# Altium footprint library ATK-2014-09-12.PcbLib: 436 footprints (part 18 of 28)
Each footprint in its own frame and in the unit in brackets; x right, y up, seen from the top. Pads: shape width x height; smd on the part's side, far side on the other; paste and mask are expansions set on the pad; w line width, h text height; cw(c..) or ccw(c..) is an arc to the next point about the centre after c.
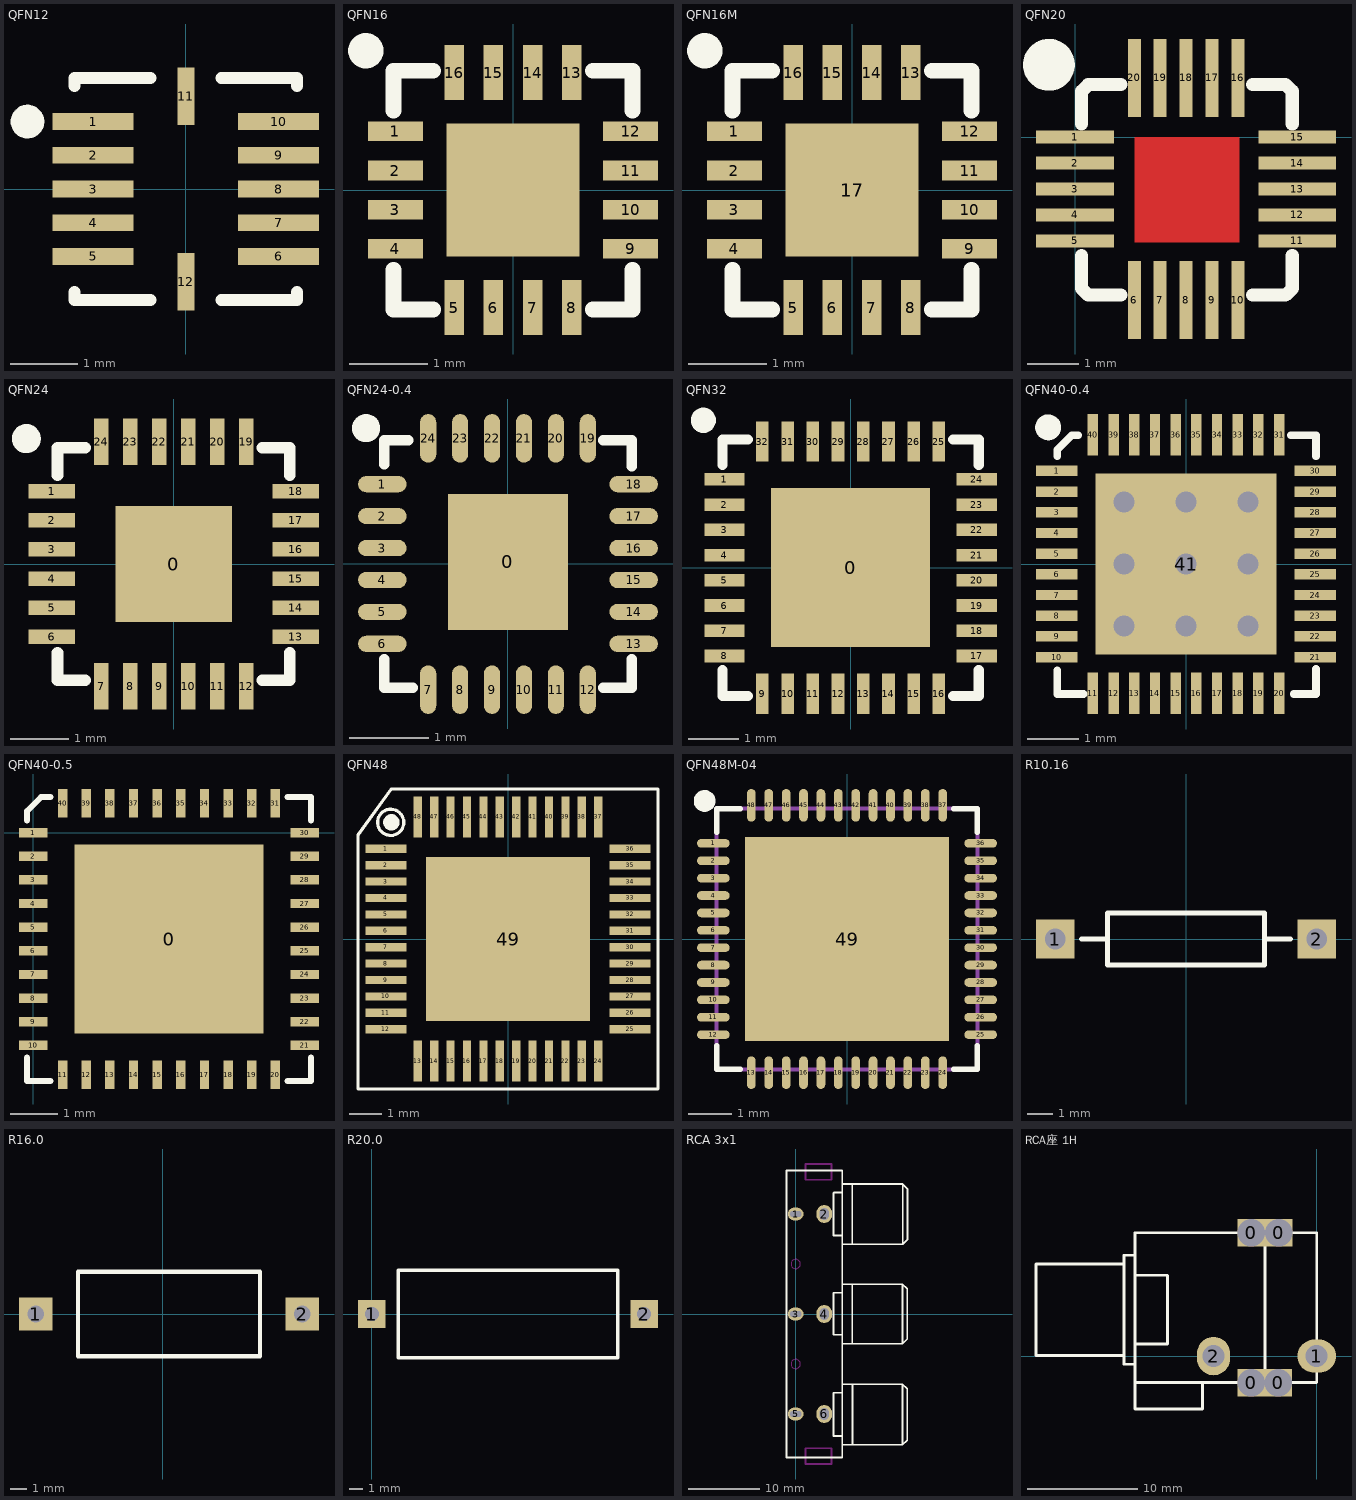
[diagram p17: the footprints below, top view; thin cyan lines are the x and y axes]

## QFN12 [mm] "QFN, 12-Leads, Body 3.2x3.2mm (max), Pitch 0.50mm, IPC High Density"
height 0.9
pads (12):
  rect 1.2x0.25 smd: 1(-1.375,1) 2(-1.375,0.5) 3(-1.375,0) 4(-1.375,-0.5) 5(-1.375,-1) 6(1.375,-1) 7(1.375,-0.5) 8(1.375,0) 9(1.375,0.5) 10(1.375,1)
  rect 0.25x0.85 smd: 11(0,1.375) 12(0,-1.375)
Top Overlay:
  circle w0.25: c-2.35,1 r0.125
  lines w0.178: -1.65,-1.525 -1.65,-1.65 -0.525,-1.65 ; -1.65,1.525 -1.65,1.65 -0.525,1.65 ; 0.525,-1.65 1.65,-1.65 1.65,-1.525 ; 0.525,1.65 1.65,1.65 1.65,1.525

## QFN16 [mm] "QFN, 16-Leads, Body 3.1x3.1mm (max), Pitch 0.50mm, IPC Medium Density"
height 0.8
pads (21):
  rect 0.7x0.25 smd: 1(-1.5,0.75) 2(-1.5,0.25) 3(-1.5,-0.25) 4(-1.5,-0.75) 9(1.5,-0.75) 10(1.5,-0.25) 11(1.5,0.25) 12(1.5,0.75)
  rect 0.25x0.7 smd: 5(-0.75,-1.5) 6(-0.25,-1.5) 7(0.25,-1.5) 8(0.75,-1.5) 13(0.75,1.5) 14(0.25,1.5) 15(-0.25,1.5) 16(-0.75,1.5)
  rect 0x0 smd: 17(-1.25,0) 19(0,1.25) 21(1.25,0) 23(0,-1.25)
  rect 1.7x1.7 smd: ""(0,0)
Top Overlay:
  circle w0.25: c-1.878,1.778 r0.1
  lines w0.2: -1.524,-1.016 -1.524,-1.524 -1.016,-1.524 ; -1.524,1.016 -1.524,1.524 -1.016,1.524 ; 1.016,-1.524 1.524,-1.524 1.524,-1.016 ; 1.016,1.524 1.524,1.524 1.524,1.016

## QFN16M [mm]
pads (17):
  rect 0.7x0.25 smd: 1(-1.5,0.75) 2(-1.5,0.25) 3(-1.5,-0.25) 4(-1.5,-0.75) 9(1.5,-0.75) 10(1.5,-0.25) 11(1.5,0.25) 12(1.5,0.75)
  rect 0.25x0.7 smd: 5(-0.75,-1.5) 6(-0.25,-1.5) 7(0.25,-1.5) 8(0.75,-1.5) 13(0.75,1.5) 14(0.25,1.5) 15(-0.25,1.5) 16(-0.75,1.5)
  rect 1.7x1.7 smd: 17(0,0)
Top Overlay:
  circle w0.25: c-1.878,1.778 r0.1
  lines w0.2: -1.524,-1.016 -1.524,-1.524 -1.016,-1.524 ; -1.524,1.016 -1.524,1.524 -1.016,1.524 ; 1.016,-1.524 1.524,-1.524 1.524,-1.016 ; 1.016,1.524 1.524,1.524 1.524,1.016

## QFN20 [mm]
height 1
pads (20):
  rect 1.5x0.25 smd: 1(0,0) 2(0,-0.5) 3(0,-1) 4(0,-1.5) 5(0,-2) 11(4.286,-2) 12(4.286,-1.5) 13(4.286,-1) 14(4.286,-0.5) 15(4.286,0)
  rect 0.25x1.5 smd: 6(1.143,-3.143) 7(1.643,-3.143) 8(2.143,-3.143) 9(2.643,-3.143) 10(3.143,-3.143) 16(3.143,1.143) 17(2.643,1.143) 18(2.143,1.143) 19(1.643,1.143) 20(1.143,1.143)
Top Layer:
  rectangle: 1.143,-2.032 3.175,0
Top Overlay:
  circle w0.5: c-0.504,1.397 r0.25
  lines w0.254: 0.127,-2.286 0.127,-2.921 0.254,-3.048 0.889,-3.048 0.381,-3.048 ; 0.127,0.254 0.127,0.889 0.254,1.016 0.889,1.016 0.381,1.016 ; 3.429,-3.048 4.064,-3.048 4.191,-2.921 4.191,-2.286 ; 3.937,1.016 3.429,1.016 4.064,1.016 4.191,0.889 4.191,0.254

## QFN24 [mm] "QFN, 24-Leads, Body 4.0x4.0mm (max), Pitch 0.50mm, IPC Medium Density"
height 0.9
pads (25):
  rect 2x2 smd: 0(0,0)
  rect 0.8x0.25 smd: 1(-2.101,1.25) 2(-2.101,0.75) 3(-2.101,0.25) 4(-2.101,-0.25) 5(-2.101,-0.75) 6(-2.101,-1.25) 13(2.101,-1.25) 14(2.101,-0.75) 15(2.101,-0.25) 16(2.101,0.25) 17(2.101,0.75) 18(2.101,1.25)
  rect 0.25x0.8 smd: 7(-1.25,-2.101) 8(-0.75,-2.101) 9(-0.25,-2.101) 10(0.25,-2.101) 11(0.75,-2.101) 12(1.25,-2.101) 19(1.25,2.101) 20(0.75,2.101) 21(0.25,2.101) 22(-0.25,2.101) 23(-0.75,2.101) 24(-1.25,2.101)
Top Overlay:
  circle w0.25: c-2.538,2.159 r0.125
  lines w0.2: -2,-1.525 -2,-2 -1.525,-2 ; -2,1.525 -2,2 -1.525,2 ; 1.525,-2 2,-2 2,-1.525 ; 1.525,2 2,2 2,1.525

## QFN24-0.4 [mm] "QFN, 24-Leads, Body 3.0x3.0mm (max), Pitch 0.40mm, IPC Medium Density"
height 1
pads (25):
  rect 1.5x1.7 smd: 0(0,0.025)
  oval 0.61x0.203 smd: 1(-1.575,1) 2(-1.575,0.6) 3(-1.575,0.2) 4(-1.575,-0.2) 5(-1.575,-0.6) 6(-1.575,-1) 13(1.575,-1) 14(1.575,-0.6) 15(1.575,-0.2) 16(1.575,0.2) 17(1.575,0.6) 18(1.575,1)
  oval 0.203x0.61 smd: 7(-1,-1.575) 8(-0.6,-1.575) 9(-0.2,-1.575) 10(0.2,-1.575) 11(0.6,-1.575) 12(1,-1.575) 19(1,1.575) 20(0.6,1.575) 21(0.2,1.575) 22(-0.2,1.575) 23(-0.6,1.575) 24(-1,1.575)
Top Overlay:
  circle w0.25: c-1.778,1.702 r0.051
  lines w0.127: -1.55,-1.194 -1.55,-1.55 -1.194,-1.55 ; -1.55,1.245 -1.55,1.55 -1.245,1.55 ; 1.194,-1.55 1.55,-1.55 1.55,-1.194 ; 1.194,1.55 1.55,1.55 1.55,1.22
3D body: height 1, standoff 0, extent -1.525,-1.525 1.525,1.525

## QFN32 [mm] "QFN, 32-Leads, Body 5.2x5.2mm (max), Pitch 0.50mm, IPC Medium Density"
height 1
pads (33):
  rect 3.15x3.15 smd: 0(0,0)
  rect 0.8x0.25 smd: 1(-2.5,1.75) 2(-2.5,1.25) 3(-2.5,0.75) 4(-2.5,0.25) 5(-2.5,-0.25) 6(-2.5,-0.75) 7(-2.5,-1.25) 8(-2.5,-1.75) 17(2.5,-1.75) 18(2.5,-1.25) 19(2.5,-0.75) 20(2.5,-0.25) 21(2.5,0.25) 22(2.5,0.75) 23(2.5,1.25) 24(2.5,1.75)
  rect 0.25x0.8 smd: 9(-1.75,-2.5) 10(-1.25,-2.5) 11(-0.75,-2.5) 12(-0.25,-2.5) 13(0.25,-2.5) 14(0.75,-2.5) 15(1.25,-2.5) 16(1.75,-2.5) 25(1.75,2.5) 26(1.25,2.5) 27(0.75,2.5) 28(0.25,2.5) 29(-0.25,2.5) 30(-0.75,2.5) 31(-1.25,2.5) 32(-1.75,2.5)
Top Overlay:
  circle w0.25: c-2.919,2.921 r0.125
  lines w0.2: -2.54,-2.032 -2.54,-2.54 -2.032,-2.54 ; -2.54,2.032 -2.54,2.54 -2.032,2.54 ; 2.032,-2.54 2.54,-2.54 2.54,-2.032 ; 2.032,2.54 2.54,2.54 2.54,2.032

## QFN40-0.4 [mm] "QFN, 40-Leads, Body 5.0x5.0mm (max), Pitch 0.40mm, IPC Medium Density"
height 0.7
pads (41):
  rect 0.8x0.2 smd: 1(-2.5,1.8) 2(-2.5,1.4) 3(-2.5,1) 4(-2.5,0.6) 5(-2.5,0.2) 6(-2.5,-0.2) 7(-2.5,-0.6) 8(-2.5,-1) 9(-2.5,-1.4) 10(-2.5,-1.8) 21(2.5,-1.8) 22(2.5,-1.4) 23(2.5,-1) 24(2.5,-0.6) 25(2.5,-0.2) 26(2.5,0.2) 27(2.5,0.6) 28(2.5,1) 29(2.5,1.4) 30(2.5,1.8)
  rect 0.2x0.8 smd: 11(-1.8,-2.5) 12(-1.4,-2.5) 13(-1,-2.5) 14(-0.6,-2.5) 15(-0.2,-2.5) 16(0.2,-2.5) 17(0.6,-2.5) 18(1,-2.5) 19(1.4,-2.5) 20(1.8,-2.5) 31(1.8,2.5) 32(1.4,2.5) 33(1,2.5) 34(0.6,2.5) 35(0.2,2.5) 36(-0.2,2.5) 37(-0.6,2.5) 38(-1,2.5) 39(-1.4,2.5) 40(-1.8,2.5)
  rect 3.5x3.5 smd: 41(0,0)
via 1.2,-1.2 diameter 0.7 hole 0.4
via 0,-1.2 diameter 0.7 hole 0.4
via -1.2,-1.2 diameter 0.7 hole 0.4
via 1.2,0 diameter 0.7 hole 0.4
via 0,0 diameter 0.7 hole 0.4
via -1.2,0 diameter 0.7 hole 0.4
via 1.2,1.2 diameter 0.7 hole 0.4
via 0,1.2 diameter 0.7 hole 0.4
via -1.2,1.2 diameter 0.7 hole 0.4
Top Overlay:
  circle w0.25: c-2.665,2.642 r0.125
  lines w0.152: -2.489,-2.057 -2.489,-2.489 -2.489,-2.515 -1.981,-2.515 ; -2.489,2.083 -2.489,2.21 -2.21,2.489 -2.083,2.489 ; 2.032,2.489 2.515,2.489 2.515,2.083 ; 2.083,-2.515 2.515,-2.515 2.515,-2.032

## QFN40-0.5 [mm]
pads (41):
  rect 4x4 smd: 0(2.87,-2.25)
  rect 0.6x0.2 smd: 1(0,0) 2(0,-0.5) 3(0,-1) 4(0,-1.5) 5(0,-2) 6(0,-2.5) 7(0,-3) 8(0,-3.5) 9(0,-4) 10(0,-4.5) 21(5.74,-4.5) 22(5.74,-4) 23(5.74,-3.5) 24(5.74,-3) 25(5.74,-2.5) 26(5.74,-2) 27(5.74,-1.5) 28(5.74,-1) 29(5.74,-0.5) 30(5.74,0)
  rect 0.2x0.6 smd: 11(0.62,-5.12) 12(1.12,-5.12) 13(1.62,-5.12) 14(2.12,-5.12) 15(2.62,-5.12) 16(3.12,-5.12) 17(3.62,-5.12) 18(4.12,-5.12) 19(4.62,-5.12) 20(5.12,-5.12) 31(5.12,0.62) 32(4.62,0.62) 33(4.12,0.62) 34(3.62,0.62) 35(3.12,0.62) 36(2.62,0.62) 37(2.12,0.62) 38(1.62,0.62) 39(1.12,0.62) 40(0.62,0.62)
Top Overlay:
  lines w0.127: -0.13,-4.75 -0.13,-5.25 0.37,-5.25 ; -0.13,0.25 -0.13,0.45 0.17,0.75 0.37,0.75 ; 5.37,-5.25 5.87,-5.25 5.87,-4.75 ; 5.37,0.75 5.87,0.75 5.87,0.25

## QFN48 [mm] "QFN, 48-Leads, Body 7.0x7.0mm (max), Pitch 0.50mm, IPC Low Density"
height 0.8
pads (49):
  rect 1.25x0.25 smd: 1(-3.725,2.75) 2(-3.725,2.25) 3(-3.725,1.75) 4(-3.725,1.25) 5(-3.725,0.75) 6(-3.725,0.25) 7(-3.725,-0.25) 8(-3.725,-0.75) 9(-3.725,-1.25) 10(-3.725,-1.75) 11(-3.725,-2.25) 12(-3.725,-2.75) 25(3.725,-2.75) 26(3.725,-2.25) 27(3.725,-1.75) 28(3.725,-1.25) 29(3.725,-0.75) 30(3.725,-0.25) 31(3.725,0.25) 32(3.725,0.75) 33(3.725,1.25) 34(3.725,1.75) 35(3.725,2.25) 36(3.725,2.75)
  rect 0.25x1.25 smd: 13(-2.75,-3.725) 14(-2.25,-3.725) 15(-1.75,-3.725) 16(-1.25,-3.725) 17(-0.75,-3.725) 18(-0.25,-3.725) 19(0.25,-3.725) 20(0.75,-3.725) 21(1.25,-3.725) 22(1.75,-3.725) 23(2.25,-3.725) 24(2.75,-3.725) 37(2.75,3.725) 38(2.25,3.725) 39(1.75,3.725) 40(1.25,3.725) 41(0.75,3.725) 42(0.25,3.725) 43(-0.25,3.725) 44(-0.75,3.725) 45(-1.25,3.725) 46(-1.75,3.725) 47(-2.25,3.725) 48(-2.75,3.725)
  rect 5x5 smd: 49(0,0)
Top Overlay:
  circle w0.25: c-3.554,3.556 r0.125
  circle w0.1: c-3.575,3.556 r0.4
  lines w0.1: -4.572,-4.572 -4.572,-0.508 -4.572,3.175 -3.556,4.572 4.572,4.572 4.572,-4.572 -4.572,-4.572
Mechanical 15:
  lines w0.1: -0.5,0 0.5,0 ; 0,-0.5 0,0.5
3D body: height 0.8, standoff 0.01, extent -3.5,-3.5 3.5,3.5

## QFN48M-04 [mm] "QFN, 48-Leads, Body 6.0x6.0mm (max), Pitch 0.40mm, IPC Low Density"
height 0.9
pads (49):
  oval 0.75x0.2 smd: 1(-3.075,2.2) 2(-3.075,1.8) 3(-3.075,1.4) 4(-3.075,1) 5(-3.075,0.6) 6(-3.075,0.2) 7(-3.075,-0.2) 8(-3.075,-0.6) 9(-3.075,-1) 10(-3.075,-1.4) 11(-3.075,-1.8) 12(-3.075,-2.2) 25(3.075,-2.2) 26(3.075,-1.8) 27(3.075,-1.4) 28(3.075,-1) 29(3.075,-0.6) 30(3.075,-0.2) 31(3.075,0.2) 32(3.075,0.6) 33(3.075,1) 34(3.075,1.4) 35(3.075,1.8) 36(3.075,2.2)
  oval 0.2x0.75 smd: 13(-2.2,-3.075) 14(-1.8,-3.075) 15(-1.4,-3.075) 16(-1,-3.075) 17(-0.6,-3.075) 18(-0.2,-3.075) 19(0.2,-3.075) 20(0.6,-3.075) 21(1,-3.075) 22(1.4,-3.075) 23(1.8,-3.075) 24(2.2,-3.075) 37(2.2,3.075) 38(1.8,3.075) 39(1.4,3.075) 40(1,3.075) 41(0.6,3.075) 42(0.2,3.075) 43(-0.2,3.075) 44(-0.6,3.075) 45(-1,3.075) 46(-1.4,3.075) 47(-1.8,3.075) 48(-2.2,3.075)
  rect 4.7x4.7 smd: 49(0,0)
Top Overlay:
  circle w0.25: c-3.275,3.175 r0.125
  lines w0.127: -3,-2.45 -3,-3 -2.45,-3 ; -3,2.45 -3,3 -2.45,3 ; 2.45,-3 3,-3 3,-2.45 ; 2.45,3 3,3 3,2.45
Mechanical 13:
  lines w0.1: -3,-3 -3,3 3,3 3,-3 -3,-3
3D body: height 0.9, standoff 0, extent -3,-3 3,3

## R10.16 [mm] "STD"
height 4
pads (2):
  rect 1.5x1.5 hole 0.8: 1(-5.08,0) 2(5.08,0)
Top Overlay:
  lines w0.2: -4.064,0 -3.048,0 ; 3.048,0 4.064,0 ; -3.048,-1.016 -3.048,1.016 3.048,1.016 3.048,-1.016 -3.048,-1.016

## R16.0 [mm] "RX/1W"
pads (2):
  rect 2x2 hole 1: 1(-7.62,0) 2(8.382,0)
Top Overlay:
  lines w0.254: -5.08,-2.54 -5.08,2.54 5.842,2.54 5.842,-2.54 -5.08,-2.54

## R20.0 [mm] "RX/2W"
height 7
pads (2):
  rect 2x2 hole 1: 1(0,0) 2(19.685,0)
Top Overlay:
  lines w0.254: 1.905,-3.175 1.905,3.175 17.78,3.175 17.78,-3.175 1.905,-3.175

## RCA 3x1 [mm] "RCA 莲花座  3位1体"
pads (6):
  oval 2.2x1.8 hole 0.8 slot 1.6 at 0 deg: 1(0,14) 3(0,0) 5(0,-14)
  oval 2.2x2.5 hole 1.3 slot 1.6 at 90 deg: 2(4,14) 4(4,0) 6(4,-14)
Top Overlay:
  lines w0.254: 5.307,16.946 5.307,11.917 5.307,10.984 6.526,10.984 ; 5.326,16.991 6.526,16.991 ; 6.526,-18.334 6.552,-18.309 14.961,-18.309 ; 6.526,-17.083 5.84,-17.083 5.834,-17.09 5.307,-17.09 5.307,-11.07 5.352,-11.025 5.993,-11.025 6.526,-11.025 ; 6.526,-9.825 14.961,-9.825 ; 6.526,-4.263 6.628,-4.161 14.961,-4.161 ; 6.526,-2.91 5.967,-2.91 5.326,-2.91 5.307,-2.891 5.307,2.97 6.526,2.97 ; 6.526,4.17 14.961,4.17 ; 6.526,9.682 6.602,9.758 14.986,9.758 ; 6.526,18.191 14.961,18.191 ; 6.526,20.062 6.526,-20.1 -1.27,-20.1 -1.27,20.1 6.526,20.1 ; 7.924,-4.13 7.924,4.17 ; 7.924,9.84 7.924,18.14 ; 7.975,-18.151 7.975,-9.851 ; 14.96,-9.825 14.96,-18.309 15.621,-17.649 15.621,-10.485 14.96,-9.825 ; 14.96,4.171 14.96,-4.161 15.621,-3.501 15.621,3.51 14.96,4.171 ; 14.986,9.758 15.646,10.418 15.646,17.531 14.986,18.191 14.986,9.758
Keep-Out Layer:
  circle w0.1: c0,7 r0.65
  circle w0.1: c0,-7 r0.65
  lines w0.254: 1.4,-21 5,-21 5,-18.8 1.4,-18.8 1.4,-21 ; 1.4,18.8 5,18.8 5,21 1.4,21 1.4,18.8

## RCA座 1H [mm]
pads (6):
  rect 2.5x2.5 hole 2.5 square: 0(-5.944,-2.413) 0(-5.944,11.201) 0(-3.48,-2.413) 0(-3.454,11.201)
  oval 3.5x3 hole 2: 1(0,0)
  oval 3x3.5 hole 2: 2(-9.373,0)
Top Overlay:
  lines w0.254: -25.502,0.066 -17.501,0.066 ; -25.502,0.076 -25.502,8.357 ; -25.502,8.366 -17.501,8.366 ; -16.51,-4.801 -16.51,-2.362 ; -16.51,-4.792 -10.389,-4.792 ; -16.51,-2.392 -10.389,-2.392 ; -16.51,-0.737 -17.501,-0.737 -17.501,9.169 -16.51,9.169 ; -16.51,7.341 -13.614,7.341 ; -16.459,1.092 -13.589,1.092 ; -13.564,1.092 -13.564,7.315 ; -10.389,-4.775 -10.389,-2.388 ; -4.699,-2.311 -4.699,11.176 ; -16.51,-2.388 -0.025,-2.388 0,-2.362 0,11.201 -16.51,11.201 -16.51,-2.388